# Altium integrated library Atmel Microcontroller 32-Bit ARM.IntLib: 17 symbols
Pins are listed as number, name and electrical type; pins without a type are passive.

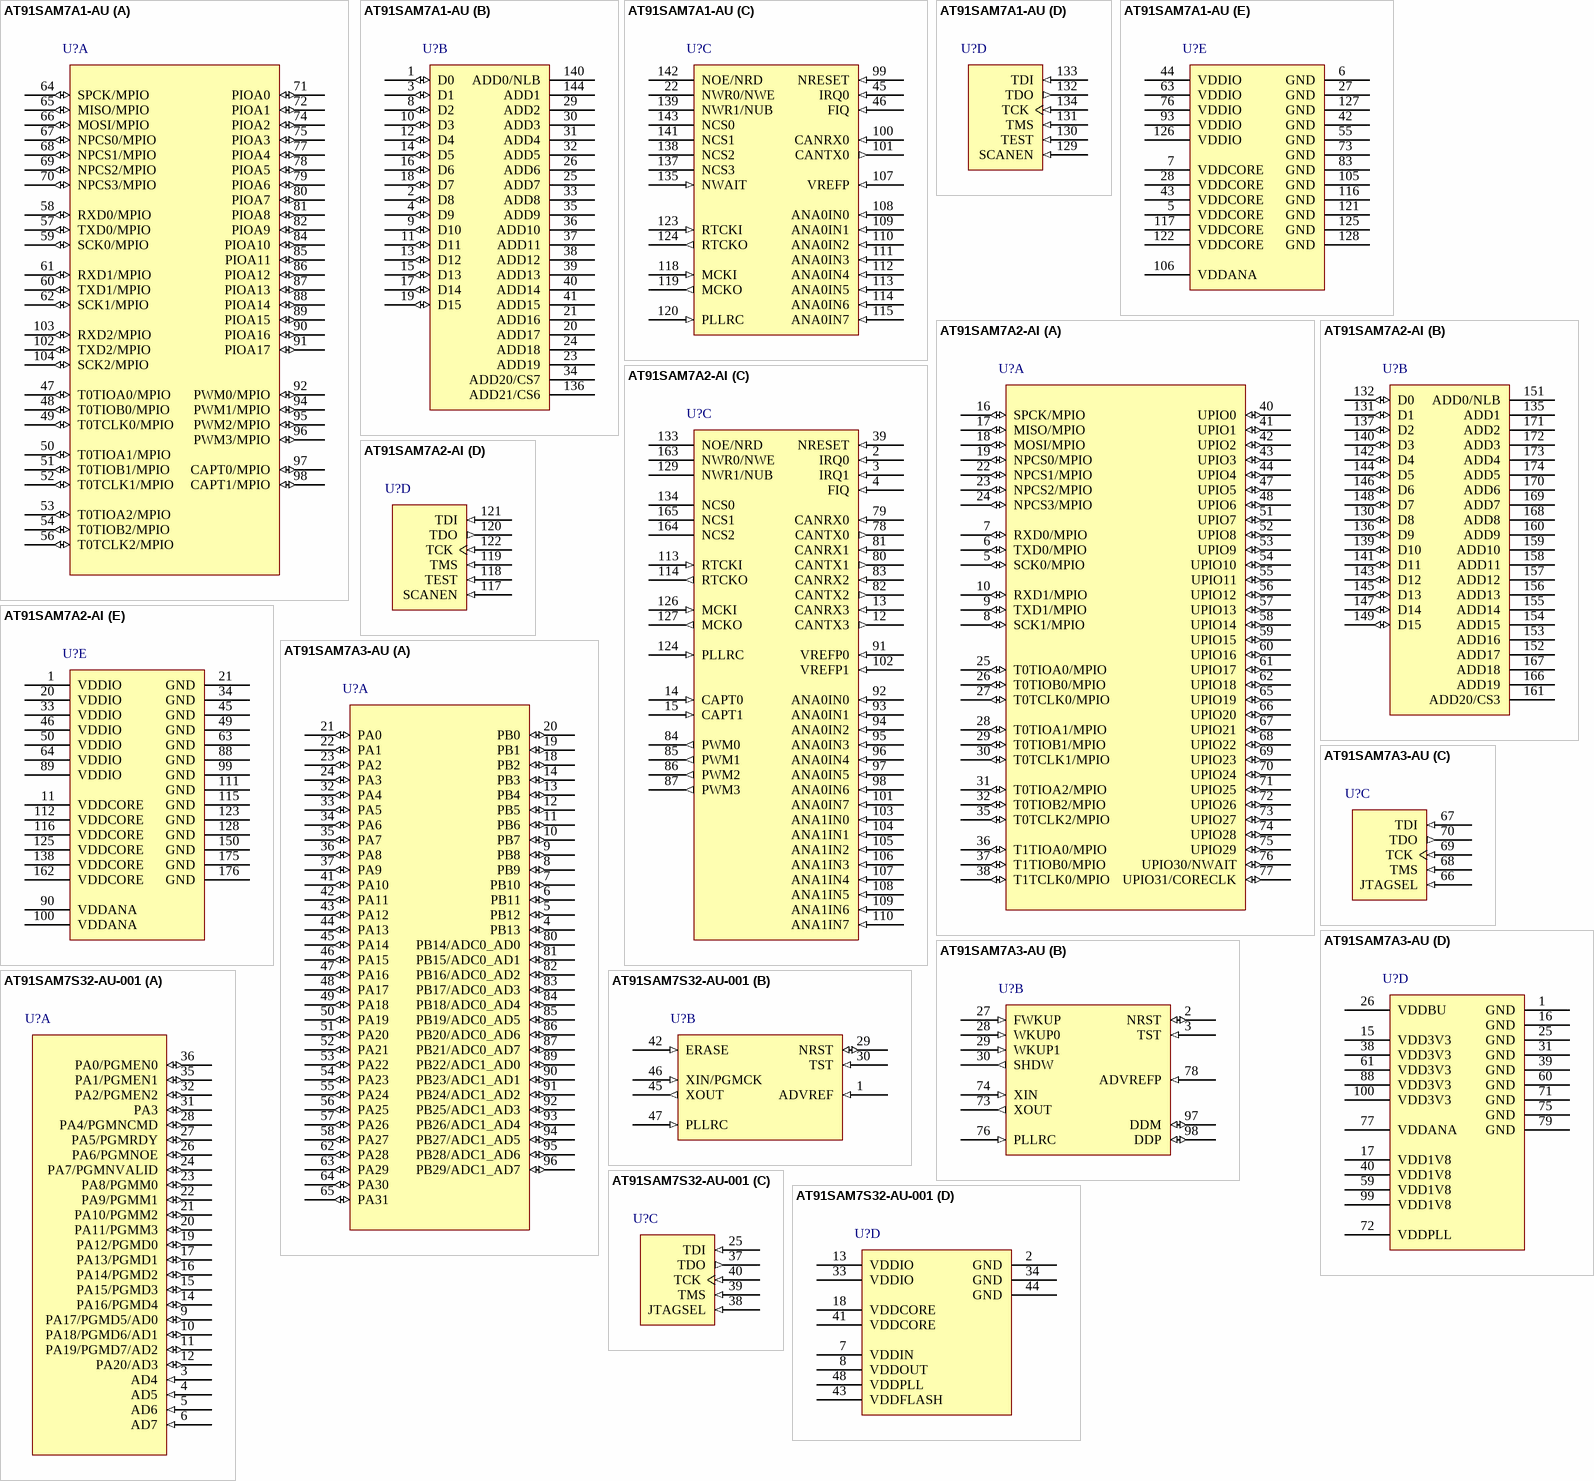
[diagram p0: symbols AT91SAM7A1-AU to AT91SAM7S32-AU-001]

## AT91SAM7A1-AU
designator U?
Smart ARM Microcontroller, ARM7TDMI 32-Bit RISC CPU, 4KB Internal RAM, 144-Pin LQFP, Industrial, Pb-Free; Published: 16-Oct-2006; DatasheetVersion: 29-Jun-2006; PackageVersion: rev.C, Oct-2001; PackageReference: 144AA; Publisher: Altium Limited; PackageDescription: 144-Pin Thin Quad Flat Pack 0.5 mm Pitch; Code_JEDEC: MS-026-BFB; ComponentLink1Description: Manufacturer Link; ComponentLink1URL: http://www.atmel.com; ComponentLink2Description: Datasheet; ComponentLink2URL: http://www.atmel.com/dyn/resources/prod_documents/6048s.pdf
footprint 144AA_N (Thin QFP, 144-Leads, Body 20x20mm, Pitch 0.5mm, IPC Medium Density)
footprint 144AA_L (Thin QFP, 144-Leads, Body 20x20mm, Pitch 0.5mm, IPC High Density)
footprint 144AA_M (Thin QFP, 144-Leads, Body 20x20mm, Pitch 0.5mm, IPC Low Density)
part A pins: 47 T0TIOA0/MPIO (io), 48 T0TIOB0/MPIO (io), 49 T0TCLK0/MPIO (io), 50 T0TIOA1/MPIO (io), 51 T0TIOB1/MPIO (io), 52 T0TCLK1/MPIO (io), 53 T0TIOA2/MPIO (io), 54 T0TIOB2/MPIO (io), 56 T0TCLK2/MPIO (io), 57 TXD0/MPIO (io), 58 RXD0/MPIO (io), 59 SCK0/MPIO (io), 60 TXD1/MPIO (io), 61 RXD1/MPIO (io), 62 SCK1/MPIO (io), 64 SPCK/MPIO (io), 65 MISO/MPIO (io), 66 MOSI/MPIO (io), 67 NPCS0/MPIO (io), 68 NPCS1/MPIO (io), 69 NPCS2/MPIO (io), 70 NPCS3/MPIO (io), 71 PIOA0 (io), 72 PIOA1 (io), 74 PIOA2 (io), 75 PIOA3 (io), 77 PIOA4 (io), 78 PIOA5 (io), 79 PIOA6 (io), 80 PIOA7 (io), 81 PIOA8 (io), 82 PIOA9 (io), 84 PIOA10 (io), 85 PIOA11 (io), 86 PIOA12 (io), 87 PIOA13 (io), 88 PIOA14 (io), 89 PIOA15 (io), 90 PIOA16 (io), 91 PIOA17 (io), 92 PWM0/MPIO (io), 94 PWM1/MPIO (io), 95 PWM2/MPIO (io), 96 PWM3/MPIO (io), 97 CAPT0/MPIO (io), 98 CAPT1/MPIO (io), 102 TXD2/MPIO (io), 103 RXD2/MPIO (io), 104 SCK2/MPIO (io)
part B pins: 1 D0 (io), 2 D8 (io), 3 D1 (io), 4 D9 (io), 8 D2 (io), 9 D10 (io), 10 D3 (io), 11 D11 (io), 12 D4 (io), 13 D12 (io), 14 D5 (io), 15 D13 (io), 16 D6 (io), 17 D14 (io), 18 D7 (io), 19 D15 (io), 20 ADD17 (hiz), 21 ADD16 (hiz), 23 ADD19 (hiz), 24 ADD18 (hiz), 25 ADD7 (hiz), 26 ADD6 (hiz), 29 ADD2 (hiz), 30 ADD3 (hiz), 31 ADD4 (hiz), 32 ADD5 (hiz), 33 ADD8 (hiz), 34 ADD20/CS7 (hiz), 35 ADD9 (hiz), 36 ADD10 (hiz), 37 ADD11 (hiz), 38 ADD12 (hiz), 39 ADD13 (hiz), 40 ADD14 (hiz), 41 ADD15 (hiz), 136 ADD21/CS6 (hiz), 140 ADD0/NLB (hiz), 144 ADD1 (hiz)
part C pins: 22 NWR0/NWE (hiz), 45 IRQ0 (in), 46 FIQ (in), 99 NRESET (in), 100 CANRX0 (in), 101 CANTX0 (out), 107 VREFP (in), 108 ANA0IN0 (in), 109 ANA0IN1 (in), 110 ANA0IN2 (in), 111 ANA0IN3 (in), 112 ANA0IN4 (in), 113 ANA0IN5 (in), 114 ANA0IN6 (in), 115 ANA0IN7 (in), 118 MCKI (in), 119 MCKO (out), 120 PLLRC (in), 123 RTCKI (in), 124 RTCKO (out), 135 NWAIT (in), 137 NCS3 (hiz), 138 NCS2 (hiz), 139 NWR1/NUB (hiz), 141 NCS1 (hiz), 142 NOE/NRD (hiz), 143 NCS0 (hiz)
part D pins: 129 SCANEN (in), 130 TEST (in), 131 TMS (in), 132 TDO (out), 133 TDI (in), 134 TCK (in)
part E pins: 5 VDDCORE (power), 6 GND (power), 7 VDDCORE (power), 27 GND (power), 28 VDDCORE (power), 42 GND (power), 43 VDDCORE (power), 44 VDDIO (power), 55 GND (power), 63 VDDIO (power), 73 GND (power), 76 VDDIO (power), 83 GND (power), 93 VDDIO (power), 105 GND (power), 106 VDDANA (power), 116 GND (power), 117 VDDCORE (power), 121 GND (power), 122 VDDCORE (power), 125 GND (power), 126 VDDIO (power), 127 GND (power), 128 GND (power)

## AT91SAM7A2-AI
designator U?
Smart ARM Microcontroller, ARM7TDMI 32-Bit RISC CPU, 16KB Internal SRAM, 176-Pin LQFP, Industrial; Published: 16-Oct-2006; DatasheetVersion: 06-Jul-2004; PackageVersion: Jul-2004; PackageReference: LQFP176; Publisher: Altium Limited; PackageDescription: 176-Pin Thin Quad Flat Pack 0.5 mm Pitch; Code_JEDEC: MS-026-BGA; ComponentLink1Description: Manufacturer Link; ComponentLink1URL: http://www.atmel.com; ComponentLink2Description: Datasheet; ComponentLink2URL: http://www.atmel.com/dyn/resources/prod_documents/6021s.pdf
footprint LQFP176_N (Thin QFP, 176-Leads, Body 24x24mm, Pitch 0.5mm, IPC Medium Density)
footprint LQFP176_L (Thin QFP, 176-Leads, Body 24x24mm, Pitch 0.5mm, IPC High Density)
footprint LQFP176_M (Thin QFP, 176-Leads, Body 24x24mm, Pitch 0.5mm, IPC Low Density)
part A pins: 5 SCK0/MPIO (io), 6 TXD0/MPIO (io), 7 RXD0/MPIO (io), 8 SCK1/MPIO (io), 9 TXD1/MPIO (io), 10 RXD1/MPIO (io), 16 SPCK/MPIO (io), 17 MISO/MPIO (io), 18 MOSI/MPIO (io), 19 NPCS0/MPIO (io), 22 NPCS1/MPIO (io), 23 NPCS2/MPIO (io), 24 NPCS3/MPIO (io), 25 T0TIOA0/MPIO (io), 26 T0TIOB0/MPIO (io), 27 T0TCLK0/MPIO (io), 28 T0TIOA1/MPIO (io), 29 T0TIOB1/MPIO (io), 30 T0TCLK1/MPIO (io), 31 T0TIOA2/MPIO (io), 32 T0TIOB2/MPIO (io), 35 T0TCLK2/MPIO (io), 36 T1TIOA0/MPIO (io), 37 T1TIOB0/MPIO (io), 38 T1TCLK0/MPIO (io), 40 UPIO0 (io), 41 UPIO1 (io), 42 UPIO2 (io), 43 UPIO3 (io), 44 UPIO4 (io), 47 UPIO5 (io), 48 UPIO6 (io), 51 UPIO7 (io), 52 UPIO8 (io), 53 UPIO9 (io), 54 UPIO10 (io), 55 UPIO11 (io), 56 UPIO12 (io), 57 UPIO13 (io), 58 UPIO14 (io), 59 UPIO15 (io), 60 UPIO16 (io), 61 UPIO17 (io), 62 UPIO18 (io), 65 UPIO19 (io), 66 UPIO20 (io), 67 UPIO21 (io), 68 UPIO22 (io), 69 UPIO23 (io), 70 UPIO24 (io), 71 UPIO25 (io), 72 UPIO26 (io), 73 UPIO27 (io), 74 UPIO28 (io), 75 UPIO29 (io), 76 UPIO30/NWAIT (io), 77 UPIO31/CORECLK (io)
part B pins: 130 D8 (io), 131 D1 (io), 132 D0 (io), 135 ADD1 (hiz), 136 D9 (io), 137 D2 (io), 139 D10 (io), 140 D3 (io), 141 D11 (io), 142 D4 (io), 143 D12 (io), 144 D5 (io), 145 D13 (io), 146 D6 (io), 147 D14 (io), 148 D7 (io), 149 D15 (io), 151 ADD0/NLB (hiz), 152 ADD17 (hiz), 153 ADD16 (hiz), 154 ADD15 (hiz), 155 ADD14 (hiz), 156 ADD13 (hiz), 157 ADD12 (hiz), 158 ADD11 (hiz), 159 ADD10 (hiz), 160 ADD9 (hiz), 161 ADD20/CS3 (hiz), 166 ADD19 (hiz), 167 ADD18 (hiz), 168 ADD8 (hiz), 169 ADD7 (hiz), 170 ADD6 (hiz), 171 ADD2 (hiz), 172 ADD3 (hiz), 173 ADD4 (hiz), 174 ADD5 (hiz)
part C pins: 2 IRQ0 (in), 3 IRQ1 (in), 4 FIQ (in), 12 CANTX3 (out), 13 CANRX3 (in), 14 CAPT0 (in), 15 CAPT1 (in), 39 NRESET (in), 78 CANTX0 (out), 79 CANRX0 (in), 80 CANTX1 (out), 81 CANRX1 (in), 82 CANTX2 (out), 83 CANRX2 (in), 84 PWM0 (out), 85 PWM1 (out), 86 PWM2 (out), 87 PWM3 (out), 91 VREFP0 (in), 92 ANA0IN0 (in), 93 ANA0IN1 (in), 94 ANA0IN2 (in), 95 ANA0IN3 (in), 96 ANA0IN4 (in), 97 ANA0IN5 (in), 98 ANA0IN6 (in), 101 ANA0IN7 (in), 102 VREFP1 (in), 103 ANA1IN0 (in), 104 ANA1IN1 (in), 105 ANA1IN2 (in), 106 ANA1IN3 (in), 107 ANA1IN4 (in), 108 ANA1IN5 (in), 109 ANA1IN6 (in), 110 ANA1IN7 (in), 113 RTCKI (in), 114 RTCKO (out), 124 PLLRC (in), 126 MCKI (in), 127 MCKO (out), 129 NWR1/NUB (hiz), 133 NOE/NRD (hiz), 134 NCS0 (hiz), 163 NWR0/NWE (hiz), 164 NCS2 (hiz), 165 NCS1 (hiz)
part D pins: 117 SCANEN (in), 118 TEST (in), 119 TMS (in), 120 TDO (out), 121 TDI (in), 122 TCK (in)
part E pins: 1 VDDIO (power), 11 VDDCORE (power), 20 VDDIO (power), 21 GND (power), 33 VDDIO (power), 34 GND (power), 45 GND (power), 46 VDDIO (power), 49 GND (power), 50 VDDIO (power), 63 GND (power), 64 VDDIO (power), 88 GND (power), 89 VDDIO (power), 90 VDDANA (power), 99 GND (power), 100 VDDANA (power), 111 GND (power), 112 VDDCORE (power), 115 GND (power), 116 VDDCORE (power), 123 GND (power), 125 VDDCORE (power), 128 GND (power), 138 VDDCORE (power), 150 GND (power), 162 VDDCORE (power), 175 GND (power), 176 GND (power)

## AT91SAM7A3-AU
designator U?
Smart ARM Microcontroller, ARM7TDMI 32-Bit RISC CPU, 256KB Flash and 32KB SRAM, 100-Pin LQFP, Industrial, Pb-Free; Published: 16-Oct-2006; DatasheetVersion: 21-Nov-2005; PackageVersion: Apr-2006; PackageReference: LQFP100; Publisher: Altium Limited; PackageDescription: 100-Pin Thin Quad Flat Pack 0.5 mm Pitch; Code_JEDEC: MS-026-BED; ComponentLink1Description: Manufacturer Link; ComponentLink1URL: http://www.atmel.com; ComponentLink2Description: Datasheet; ComponentLink2URL: http://www.atmel.com/dyn/resources/prod_documents/6042s.pdf
footprint LQFP100_N (Thin QFP, 100-Leads, Body 14x14mm, Pitch 0.5mm, IPC Medium Density)
footprint LQFP100_L (Thin QFP, 100-Leads, Body 14x14mm, Pitch 0.5mm, IPC High Density)
footprint LQFP100_M (Thin QFP, 100-Leads, Body 14x14mm, Pitch 0.5mm, IPC Low Density)
part A pins: 4 PB13 (io), 5 PB12 (io), 6 PB11 (io), 7 PB10 (io), 8 PB9 (io), 9 PB8 (io), 10 PB7 (io), 11 PB6 (io), 12 PB5 (io), 13 PB4 (io), 14 PB3 (io), 18 PB2 (io), 19 PB1 (io), 20 PB0 (io), 21 PA0 (io), 22 PA1 (io), 23 PA2 (io), 24 PA3 (io), 32 PA4 (io), 33 PA5 (io), 34 PA6 (io), 35 PA7 (io), 36 PA8 (io), 37 PA9 (io), 41 PA10 (io), 42 PA11 (io), 43 PA12 (io), 44 PA13 (io), 45 PA14 (io), 46 PA15 (io), 47 PA16 (io), 48 PA17 (io), 49 PA18 (io), 50 PA19 (io), 51 PA20 (io), 52 PA21 (io), 53 PA22 (io), 54 PA23 (io), 55 PA24 (io), 56 PA25 (io), 57 PA26 (io), 58 PA27 (io), 62 PA28 (io), 63 PA29 (io), 64 PA30 (io), 65 PA31 (io), 80 PB14/ADC0_AD0 (io), 81 PB15/ADC0_AD1 (io), 82 PB16/ADC0_AD2 (io), 83 PB17/ADC0_AD3 (io), 84 PB18/ADC0_AD4 (io), 85 PB19/ADC0_AD5 (io), 86 PB20/ADC0_AD6 (io), 87 PB21/ADC0_AD7 (io), 89 PB22/ADC1_AD0 (io), 90 PB23/ADC1_AD1 (io), 91 PB24/ADC1_AD2 (io), 92 PB25/ADC1_AD3 (io), 93 PB26/ADC1_AD4 (io), 94 PB27/ADC1_AD5 (io), 95 PB28/ADC1_AD6 (io), 96 PB29/ADC1_AD7 (io)
part B pins: 2 NRST (io), 3 TST (in), 27 FWKUP (in), 28 WKUP0 (in), 29 WKUP1 (in), 30 SHDW (out), 73 XOUT (out), 74 XIN (in), 76 PLLRC (in), 78 ADVREFP (in), 97 DDM (io), 98 DDP (io)
part C pins: 66 JTAGSEL (in), 67 TDI (in), 68 TMS (in), 69 TCK (in), 70 TDO (out)
part D pins: 1 GND (power), 15 VDD3V3 (power), 16 GND (power), 17 VDD1V8 (power), 25 GND (power), 26 VDDBU (power), 31 GND (power), 38 VDD3V3 (power), 39 GND (power), 40 VDD1V8 (power), 59 VDD1V8 (power), 60 GND (power), 61 VDD3V3 (power), 71 GND (power), 72 VDDPLL (power), 75 GND (power), 77 VDDANA (power), 79 GND (power), 88 VDD3V3 (power), 99 VDD1V8 (power), 100 VDD3V3 (power)

## AT91SAM7S32-AU-001
designator U?
Smart ARM Microcontroller, ARM7TDMI 32-Bit RISC CPU, 32KB Flash and 8KB SRAM, 48-Pin LQFP, Industrial, Pb-Free; Published: 16-Oct-2006; DatasheetVersion: 22-Mar-2006; PackageVersion: rev1229B, Nov-2000; PackageReference: 48A; Publisher: Altium Limited; PackageDescription: 48-Pin Thin Quad Flat Pack 0.5 mm Pitch; ComponentLink1Description: Manufacturer Link; ComponentLink1URL: http://www.atmel.com; ComponentLink2Description: Datasheet; ComponentLink2URL: http://www.atmel.com/dyn/resources/prod_documents/6175s.pdf
footprint 48A_N (Thin QFP, 48-Leads, Body 7x7mm, Pitch 0.5mm, IPC Medium Density)
footprint 48A_L (Thin QFP, 48-Leads, Body 7x7mm, Pitch 0.5mm, IPC High Density)
footprint 48A_M (Thin QFP, 48-Leads, Body 7x7mm, Pitch 0.5mm, IPC Low Density)
part A pins: 3 AD4 (in), 4 AD5 (in), 5 AD6 (in), 6 AD7 (in), 9 PA17/PGMD5/AD0 (io), 10 PA18/PGMD6/AD1 (io), 11 PA19/PGMD7/AD2 (io), 12 PA20/AD3 (io), 14 PA16/PGMD4 (io), 15 PA15/PGMD3 (io), 16 PA14/PGMD2 (io), 17 PA13/PGMD1 (io), 19 PA12/PGMD0 (io), 20 PA11/PGMM3 (io), 21 PA10/PGMM2 (io), 22 PA9/PGMM1 (io), 23 PA8/PGMM0 (io), 24 PA7/PGMNVALID (io), 26 PA6/PGMNOE (io), 27 PA5/PGMRDY (io), 28 PA4/PGMNCMD (io), 31 PA3 (io), 32 PA2/PGMEN2 (io), 35 PA1/PGMEN1 (io), 36 PA0/PGMEN0 (io)
part B pins: 1 ADVREF (in), 29 NRST (io), 30 TST (in), 42 ERASE (in), 45 XOUT (out), 46 XIN/PGMCK (in), 47 PLLRC (in)
part C pins: 25 TDI (in), 37 TDO (out), 38 JTAGSEL (in), 39 TMS (in), 40 TCK (in)
part D pins: 2 GND (power), 7 VDDIN (power), 8 VDDOUT (power), 13 VDDIO (power), 18 VDDCORE (power), 33 VDDIO (power), 34 GND (power), 41 VDDCORE (power), 43 VDDFLASH (power), 44 GND (power), 48 VDDPLL (power)

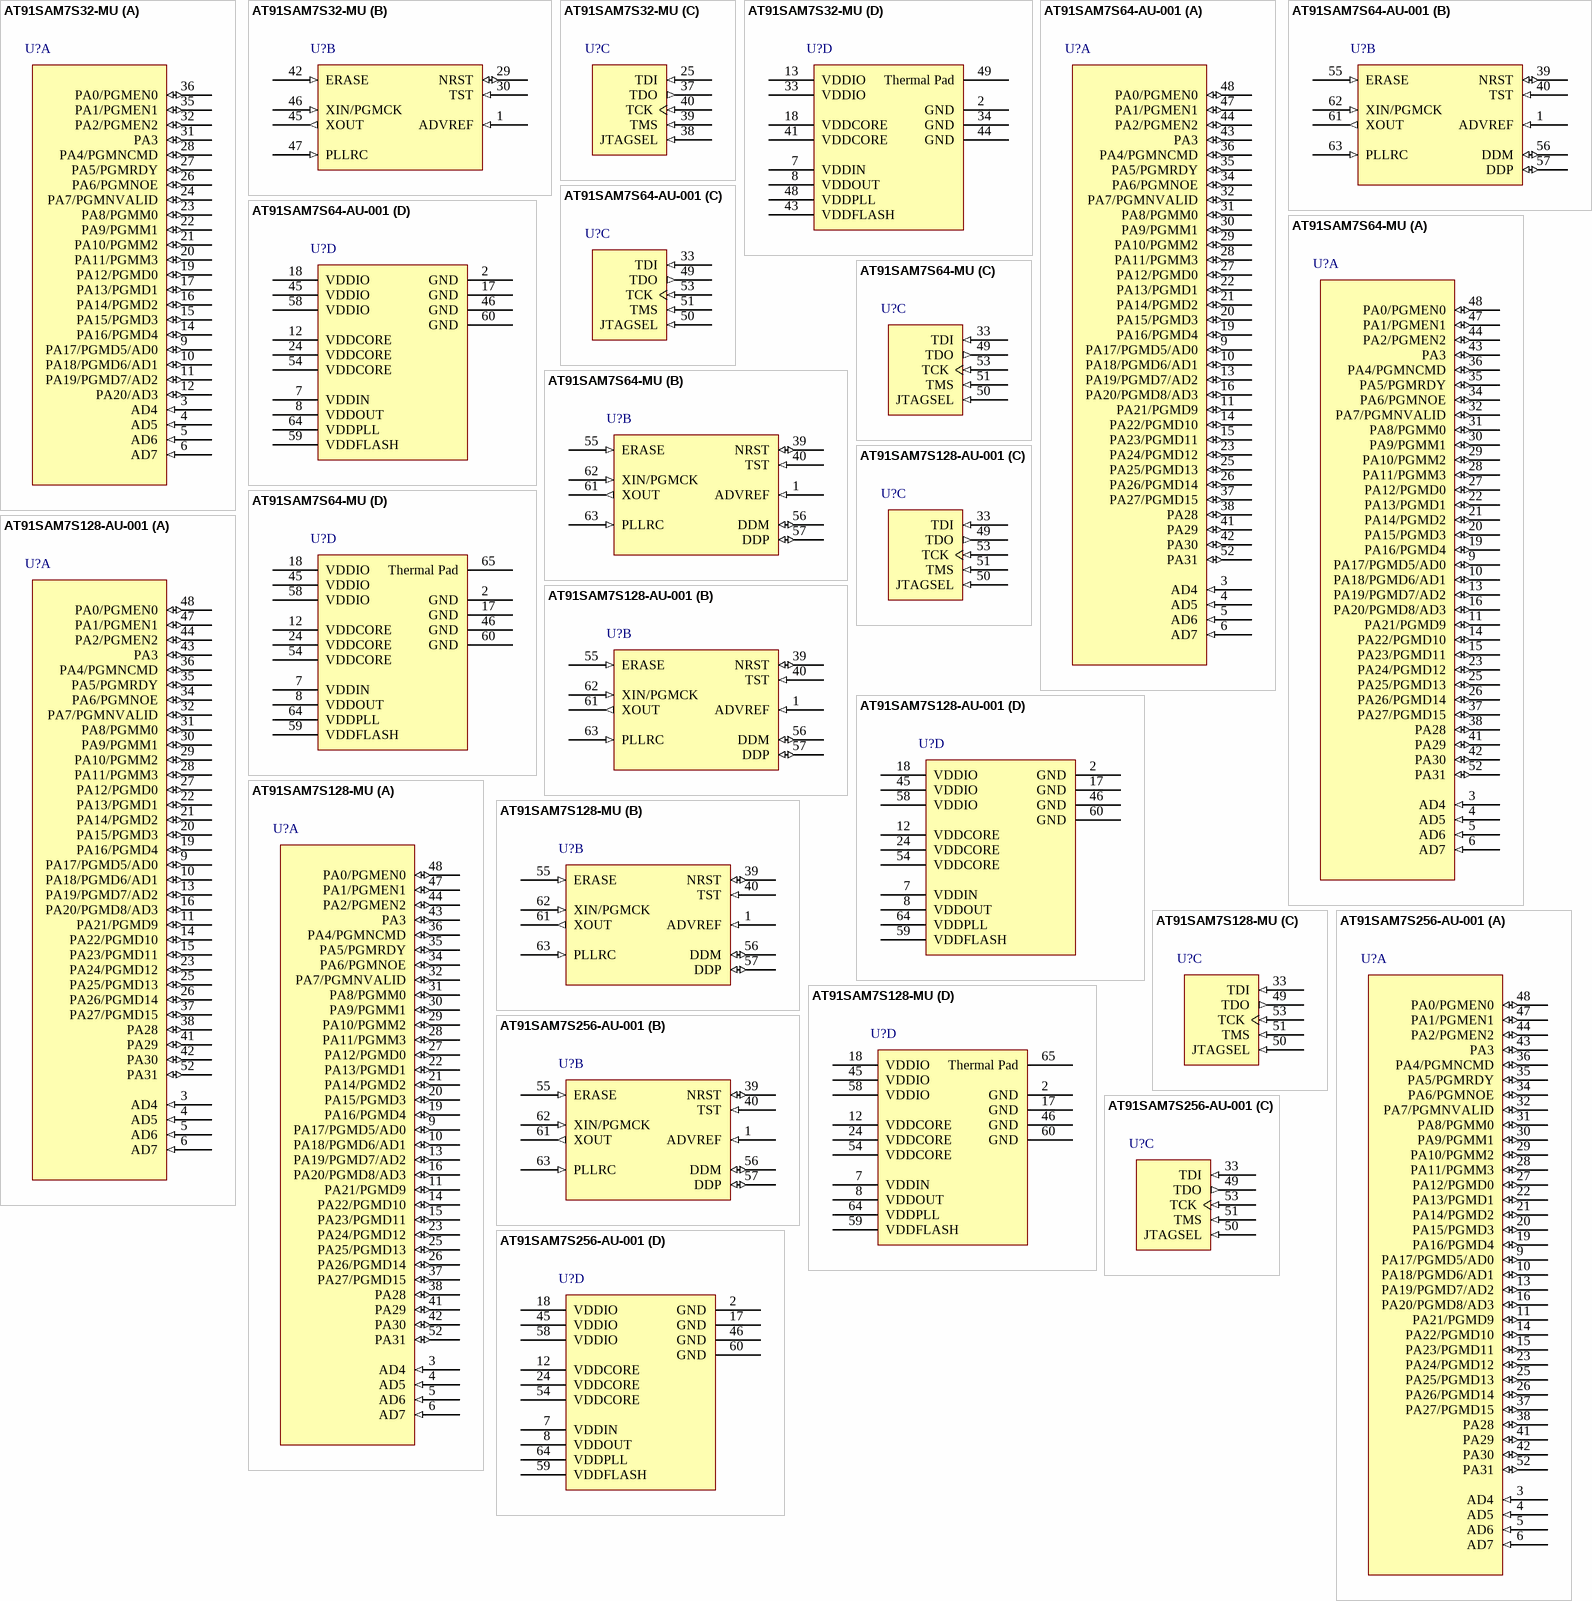
[diagram p1: symbols AT91SAM7S32-MU to AT91SAM7S256-AU-001]

## AT91SAM7S32-MU
designator U?
Smart ARM Microcontroller, ARM7TDMI 32-Bit RISC CPU, 32KB Flash and 8KB SRAM, 48-Pin QFN, Industrial, Pb-Free; Published: 16-Oct-2006; DatasheetVersion: 22-Mar-2006; PackageVersion: Apr-2006; PackageReference: QFN48; Publisher: Altium Limited; PackageDescription: 48-Pin Quad Flat No-Lead 0.5 mm Pitch; ComponentLink1Description: Manufacturer Link; ComponentLink1URL: http://www.atmel.com; ComponentLink2Description: Datasheet; ComponentLink2URL: http://www.atmel.com/dyn/resources/prod_documents/6175s.pdf
footprint QFN48_N (QFN, 48-Leads, Body 7x7mm, Pitch 0.5mm, IPC Medium Density)
footprint QFN48_L (QFN, 48-Leads, Body 7x7mm, Pitch 0.5mm, IPC High Density)
footprint QFN48_M (QFN, 48-Leads, Body 7x7mm, Pitch 0.5mm, IPC Low Density)
part A pins: 3 AD4 (in), 4 AD5 (in), 5 AD6 (in), 6 AD7 (in), 9 PA17/PGMD5/AD0 (io), 10 PA18/PGMD6/AD1 (io), 11 PA19/PGMD7/AD2 (io), 12 PA20/AD3 (io), 14 PA16/PGMD4 (io), 15 PA15/PGMD3 (io), 16 PA14/PGMD2 (io), 17 PA13/PGMD1 (io), 19 PA12/PGMD0 (io), 20 PA11/PGMM3 (io), 21 PA10/PGMM2 (io), 22 PA9/PGMM1 (io), 23 PA8/PGMM0 (io), 24 PA7/PGMNVALID (io), 26 PA6/PGMNOE (io), 27 PA5/PGMRDY (io), 28 PA4/PGMNCMD (io), 31 PA3 (io), 32 PA2/PGMEN2 (io), 35 PA1/PGMEN1 (io), 36 PA0/PGMEN0 (io)
part B pins: 1 ADVREF (in), 29 NRST (io), 30 TST (in), 42 ERASE (in), 45 XOUT (out), 46 XIN/PGMCK (in), 47 PLLRC (in)
part C pins: 25 TDI (in), 37 TDO (out), 38 JTAGSEL (in), 39 TMS (in), 40 TCK (in)
part D pins: 2 GND (power), 7 VDDIN (power), 8 VDDOUT (power), 13 VDDIO (power), 18 VDDCORE (power), 33 VDDIO (power), 34 GND (power), 41 VDDCORE (power), 43 VDDFLASH (power), 44 GND (power), 48 VDDPLL (power), 49 Thermal Pad (power)

## AT91SAM7S64-AU-001
designator U?
Smart ARM Microcontroller, ARM7TDMI 32-Bit RISC CPU, 64KB Flash and 16KB SRAM, 64-Pin LQFP, Industrial, Pb-Free; Published: 16-Oct-2006; DatasheetVersion: 22-Mar-2006; PackageVersion: Apr-2006; PackageReference: LQFP64; Publisher: Altium Limited; PackageDescription: 64-Pin Thin Quad Flat Pack 0.5 mm Pitch; Code_JEDEC: MS-026-BCD; ComponentLink1Description: Manufacturer Link; ComponentLink1URL: http://www.atmel.com; ComponentLink2Description: Datasheet; ComponentLink2URL: http://www.atmel.com/dyn/resources/prod_documents/6175s.pdf
footprint LQFP64_N (Thin QFP, 64-Leads, Body 10x10mm, Pitch 0.5mm, IPC Medium Density)
footprint LQFP64_L (Thin QFP, 64-Leads, Body 10x10mm, Pitch 0.5mm, IPC High Density)
footprint LQFP64_M (Thin QFP, 64-Leads, Body 10x10mm, Pitch 0.5mm, IPC Low Density)
part A pins: 3 AD4 (in), 4 AD5 (in), 5 AD6 (in), 6 AD7 (in), 9 PA17/PGMD5/AD0 (io), 10 PA18/PGMD6/AD1 (io), 11 PA21/PGMD9 (io), 13 PA19/PGMD7/AD2 (io), 14 PA22/PGMD10 (io), 15 PA23/PGMD11 (io), 16 PA20/PGMD8/AD3 (io), 19 PA16/PGMD4 (io), 20 PA15/PGMD3 (io), 21 PA14/PGMD2 (io), 22 PA13/PGMD1 (io), 23 PA24/PGMD12 (io), 25 PA25/PGMD13 (io), 26 PA26/PGMD14 (io), 27 PA12/PGMD0 (io), 28 PA11/PGMM3 (io), 29 PA10/PGMM2 (io), 30 PA9/PGMM1 (io), 31 PA8/PGMM0 (io), 32 PA7/PGMNVALID (io), 34 PA6/PGMNOE (io), 35 PA5/PGMRDY (io), 36 PA4/PGMNCMD (io), 37 PA27/PGMD15 (io), 38 PA28 (io), 41 PA29 (io), 42 PA30 (io), 43 PA3 (io), 44 PA2/PGMEN2 (io), 47 PA1/PGMEN1 (io), 48 PA0/PGMEN0 (io), 52 PA31 (io)
part B pins: 1 ADVREF (in), 39 NRST (io), 40 TST (in), 55 ERASE (in), 56 DDM (io), 57 DDP (io), 61 XOUT (out), 62 XIN/PGMCK (in), 63 PLLRC (in)
part C pins: 33 TDI (in), 49 TDO (out), 50 JTAGSEL (in), 51 TMS (in), 53 TCK (in)
part D pins: 2 GND (power), 7 VDDIN (power), 8 VDDOUT (power), 12 VDDCORE (power), 17 GND (power), 18 VDDIO (power), 24 VDDCORE (power), 45 VDDIO (power), 46 GND (power), 54 VDDCORE (power), 58 VDDIO (power), 59 VDDFLASH (power), 60 GND (power), 64 VDDPLL (power)

## AT91SAM7S64-MU
designator U?
Smart ARM Microcontroller, ARM7TDMI 32-Bit RISC CPU, 64KB Flash and 16KB SRAM, 64-Pin QFN, Industrial, Pb-Free; Published: 16-Oct-2006; DatasheetVersion: 22-Mar-2006; PackageVersion: Apr-2006; PackageReference: QFN64; Publisher: Altium Limited; PackageDescription: 64-Pin Quad Flat No-Lead 0.5 mm Pitch; Code_JEDEC: MO-220; ComponentLink1Description: Manufacturer Link; ComponentLink1URL: http://www.atmel.com; ComponentLink2Description: Datasheet; ComponentLink2URL: http://www.atmel.com/dyn/resources/prod_documents/6175s.pdf
footprint QFN64_N (QFN, 64-Leads, Body 9x9mm, Pitch 0.5mm, IPC Medium Density)
footprint QFN64_L (QFN, 64-Leads, Body 9x9mm, Pitch 0.5mm, IPC High Density)
footprint QFN64_M (QFN, 64-Leads, Body 9x9mm, Pitch 0.5mm, IPC Low Density)
part A pins: 3 AD4 (in), 4 AD5 (in), 5 AD6 (in), 6 AD7 (in), 9 PA17/PGMD5/AD0 (io), 10 PA18/PGMD6/AD1 (io), 11 PA21/PGMD9 (io), 13 PA19/PGMD7/AD2 (io), 14 PA22/PGMD10 (io), 15 PA23/PGMD11 (io), 16 PA20/PGMD8/AD3 (io), 19 PA16/PGMD4 (io), 20 PA15/PGMD3 (io), 21 PA14/PGMD2 (io), 22 PA13/PGMD1 (io), 23 PA24/PGMD12 (io), 25 PA25/PGMD13 (io), 26 PA26/PGMD14 (io), 27 PA12/PGMD0 (io), 28 PA11/PGMM3 (io), 29 PA10/PGMM2 (io), 30 PA9/PGMM1 (io), 31 PA8/PGMM0 (io), 32 PA7/PGMNVALID (io), 34 PA6/PGMNOE (io), 35 PA5/PGMRDY (io), 36 PA4/PGMNCMD (io), 37 PA27/PGMD15 (io), 38 PA28 (io), 41 PA29 (io), 42 PA30 (io), 43 PA3 (io), 44 PA2/PGMEN2 (io), 47 PA1/PGMEN1 (io), 48 PA0/PGMEN0 (io), 52 PA31 (io)
part B pins: 1 ADVREF (in), 39 NRST (io), 40 TST (in), 55 ERASE (in), 56 DDM (io), 57 DDP (io), 61 XOUT (out), 62 XIN/PGMCK (in), 63 PLLRC (in)
part C pins: 33 TDI (in), 49 TDO (out), 50 JTAGSEL (in), 51 TMS (in), 53 TCK (in)
part D pins: 2 GND (power), 7 VDDIN (power), 8 VDDOUT (power), 12 VDDCORE (power), 17 GND (power), 18 VDDIO (power), 24 VDDCORE (power), 45 VDDIO (power), 46 GND (power), 54 VDDCORE (power), 58 VDDIO (power), 59 VDDFLASH (power), 60 GND (power), 64 VDDPLL (power), 65 Thermal Pad (power)

## AT91SAM7S128-AU-001
designator U?
Smart ARM Microcontroller, ARM7TDMI 32-Bit RISC CPU, 128KB Flash and 32KB SRAM, 64-Pin LQFP, Industrial, Pb-Free; Published: 16-Oct-2006; DatasheetVersion: 22-Mar-2006; PackageVersion: Apr-2006; PackageReference: LQFP64; Publisher: Altium Limited; PackageDescription: 64-Pin Thin Quad Flat Pack 0.5 mm Pitch; Code_JEDEC: MS-026-BCD; ComponentLink1Description: Manufacturer Link; ComponentLink1URL: http://www.atmel.com; ComponentLink2Description: Datasheet; ComponentLink2URL: http://www.atmel.com/dyn/resources/prod_documents/6175s.pdf
footprint LQFP64_N (Thin QFP, 64-Leads, Body 10x10mm, Pitch 0.5mm, IPC Medium Density)
footprint LQFP64_L (Thin QFP, 64-Leads, Body 10x10mm, Pitch 0.5mm, IPC High Density)
footprint LQFP64_M (Thin QFP, 64-Leads, Body 10x10mm, Pitch 0.5mm, IPC Low Density)
part A pins: 3 AD4 (in), 4 AD5 (in), 5 AD6 (in), 6 AD7 (in), 9 PA17/PGMD5/AD0 (io), 10 PA18/PGMD6/AD1 (io), 11 PA21/PGMD9 (io), 13 PA19/PGMD7/AD2 (io), 14 PA22/PGMD10 (io), 15 PA23/PGMD11 (io), 16 PA20/PGMD8/AD3 (io), 19 PA16/PGMD4 (io), 20 PA15/PGMD3 (io), 21 PA14/PGMD2 (io), 22 PA13/PGMD1 (io), 23 PA24/PGMD12 (io), 25 PA25/PGMD13 (io), 26 PA26/PGMD14 (io), 27 PA12/PGMD0 (io), 28 PA11/PGMM3 (io), 29 PA10/PGMM2 (io), 30 PA9/PGMM1 (io), 31 PA8/PGMM0 (io), 32 PA7/PGMNVALID (io), 34 PA6/PGMNOE (io), 35 PA5/PGMRDY (io), 36 PA4/PGMNCMD (io), 37 PA27/PGMD15 (io), 38 PA28 (io), 41 PA29 (io), 42 PA30 (io), 43 PA3 (io), 44 PA2/PGMEN2 (io), 47 PA1/PGMEN1 (io), 48 PA0/PGMEN0 (io), 52 PA31 (io)
part B pins: 1 ADVREF (in), 39 NRST (io), 40 TST (in), 55 ERASE (in), 56 DDM (io), 57 DDP (io), 61 XOUT (out), 62 XIN/PGMCK (in), 63 PLLRC (in)
part C pins: 33 TDI (in), 49 TDO (out), 50 JTAGSEL (in), 51 TMS (in), 53 TCK (in)
part D pins: 2 GND (power), 7 VDDIN (power), 8 VDDOUT (power), 12 VDDCORE (power), 17 GND (power), 18 VDDIO (power), 24 VDDCORE (power), 45 VDDIO (power), 46 GND (power), 54 VDDCORE (power), 58 VDDIO (power), 59 VDDFLASH (power), 60 GND (power), 64 VDDPLL (power)

## AT91SAM7S128-MU
designator U?
Smart ARM Microcontroller, ARM7TDMI 32-Bit RISC CPU, 128KB Flash and 32KB SRAM, 64-Pin QFN, Industrial, Pb-Free; Published: 16-Oct-2006; DatasheetVersion: 22-Mar-2006; PackageVersion: Apr-2006; PackageReference: QFN64; Publisher: Altium Limited; PackageDescription: 64-Pin Quad Flat No-Lead 0.5 mm Pitch; Code_JEDEC: MO-220; ComponentLink1Description: Manufacturer Link; ComponentLink1URL: http://www.atmel.com; ComponentLink2Description: Datasheet; ComponentLink2URL: http://www.atmel.com/dyn/resources/prod_documents/6175s.pdf
footprint QFN64_N (QFN, 64-Leads, Body 9x9mm, Pitch 0.5mm, IPC Medium Density)
footprint QFN64_L (QFN, 64-Leads, Body 9x9mm, Pitch 0.5mm, IPC High Density)
footprint QFN64_M (QFN, 64-Leads, Body 9x9mm, Pitch 0.5mm, IPC Low Density)
part A pins: 3 AD4 (in), 4 AD5 (in), 5 AD6 (in), 6 AD7 (in), 9 PA17/PGMD5/AD0 (io), 10 PA18/PGMD6/AD1 (io), 11 PA21/PGMD9 (io), 13 PA19/PGMD7/AD2 (io), 14 PA22/PGMD10 (io), 15 PA23/PGMD11 (io), 16 PA20/PGMD8/AD3 (io), 19 PA16/PGMD4 (io), 20 PA15/PGMD3 (io), 21 PA14/PGMD2 (io), 22 PA13/PGMD1 (io), 23 PA24/PGMD12 (io), 25 PA25/PGMD13 (io), 26 PA26/PGMD14 (io), 27 PA12/PGMD0 (io), 28 PA11/PGMM3 (io), 29 PA10/PGMM2 (io), 30 PA9/PGMM1 (io), 31 PA8/PGMM0 (io), 32 PA7/PGMNVALID (io), 34 PA6/PGMNOE (io), 35 PA5/PGMRDY (io), 36 PA4/PGMNCMD (io), 37 PA27/PGMD15 (io), 38 PA28 (io), 41 PA29 (io), 42 PA30 (io), 43 PA3 (io), 44 PA2/PGMEN2 (io), 47 PA1/PGMEN1 (io), 48 PA0/PGMEN0 (io), 52 PA31 (io)
part B pins: 1 ADVREF (in), 39 NRST (io), 40 TST (in), 55 ERASE (in), 56 DDM (io), 57 DDP (io), 61 XOUT (out), 62 XIN/PGMCK (in), 63 PLLRC (in)
part C pins: 33 TDI (in), 49 TDO (out), 50 JTAGSEL (in), 51 TMS (in), 53 TCK (in)
part D pins: 2 GND (power), 7 VDDIN (power), 8 VDDOUT (power), 12 VDDCORE (power), 17 GND (power), 18 VDDIO (power), 24 VDDCORE (power), 45 VDDIO (power), 46 GND (power), 54 VDDCORE (power), 58 VDDIO (power), 59 VDDFLASH (power), 60 GND (power), 64 VDDPLL (power), 65 Thermal Pad (power)

## AT91SAM7S256-AU-001
designator U?
Smart ARM Microcontroller, ARM7TDMI 32-Bit RISC CPU, 256KB Flash and 64KB SRAM, 64-Pin LQFP, Industrial, Pb-Free; Published: 16-Oct-2006; DatasheetVersion: 22-Mar-2006; PackageVersion: Apr-2006; PackageReference: LQFP64; Publisher: Altium Limited; PackageDescription: 64-Pin Thin Quad Flat Pack 0.5 mm Pitch; Code_JEDEC: MS-026-BCD; ComponentLink1Description: Manufacturer Link; ComponentLink1URL: http://www.atmel.com; ComponentLink2Description: Datasheet; ComponentLink2URL: http://www.atmel.com/dyn/resources/prod_documents/6175s.pdf
footprint LQFP64_N (Thin QFP, 64-Leads, Body 10x10mm, Pitch 0.5mm, IPC Medium Density)
footprint LQFP64_L (Thin QFP, 64-Leads, Body 10x10mm, Pitch 0.5mm, IPC High Density)
footprint LQFP64_M (Thin QFP, 64-Leads, Body 10x10mm, Pitch 0.5mm, IPC Low Density)
part A pins: 3 AD4 (in), 4 AD5 (in), 5 AD6 (in), 6 AD7 (in), 9 PA17/PGMD5/AD0 (io), 10 PA18/PGMD6/AD1 (io), 11 PA21/PGMD9 (io), 13 PA19/PGMD7/AD2 (io), 14 PA22/PGMD10 (io), 15 PA23/PGMD11 (io), 16 PA20/PGMD8/AD3 (io), 19 PA16/PGMD4 (io), 20 PA15/PGMD3 (io), 21 PA14/PGMD2 (io), 22 PA13/PGMD1 (io), 23 PA24/PGMD12 (io), 25 PA25/PGMD13 (io), 26 PA26/PGMD14 (io), 27 PA12/PGMD0 (io), 28 PA11/PGMM3 (io), 29 PA10/PGMM2 (io), 30 PA9/PGMM1 (io), 31 PA8/PGMM0 (io), 32 PA7/PGMNVALID (io), 34 PA6/PGMNOE (io), 35 PA5/PGMRDY (io), 36 PA4/PGMNCMD (io), 37 PA27/PGMD15 (io), 38 PA28 (io), 41 PA29 (io), 42 PA30 (io), 43 PA3 (io), 44 PA2/PGMEN2 (io), 47 PA1/PGMEN1 (io), 48 PA0/PGMEN0 (io), 52 PA31 (io)
part B pins: 1 ADVREF (in), 39 NRST (io), 40 TST (in), 55 ERASE (in), 56 DDM (io), 57 DDP (io), 61 XOUT (out), 62 XIN/PGMCK (in), 63 PLLRC (in)
part C pins: 33 TDI (in), 49 TDO (out), 50 JTAGSEL (in), 51 TMS (in), 53 TCK (in)
part D pins: 2 GND (power), 7 VDDIN (power), 8 VDDOUT (power), 12 VDDCORE (power), 17 GND (power), 18 VDDIO (power), 24 VDDCORE (power), 45 VDDIO (power), 46 GND (power), 54 VDDCORE (power), 58 VDDIO (power), 59 VDDFLASH (power), 60 GND (power), 64 VDDPLL (power)

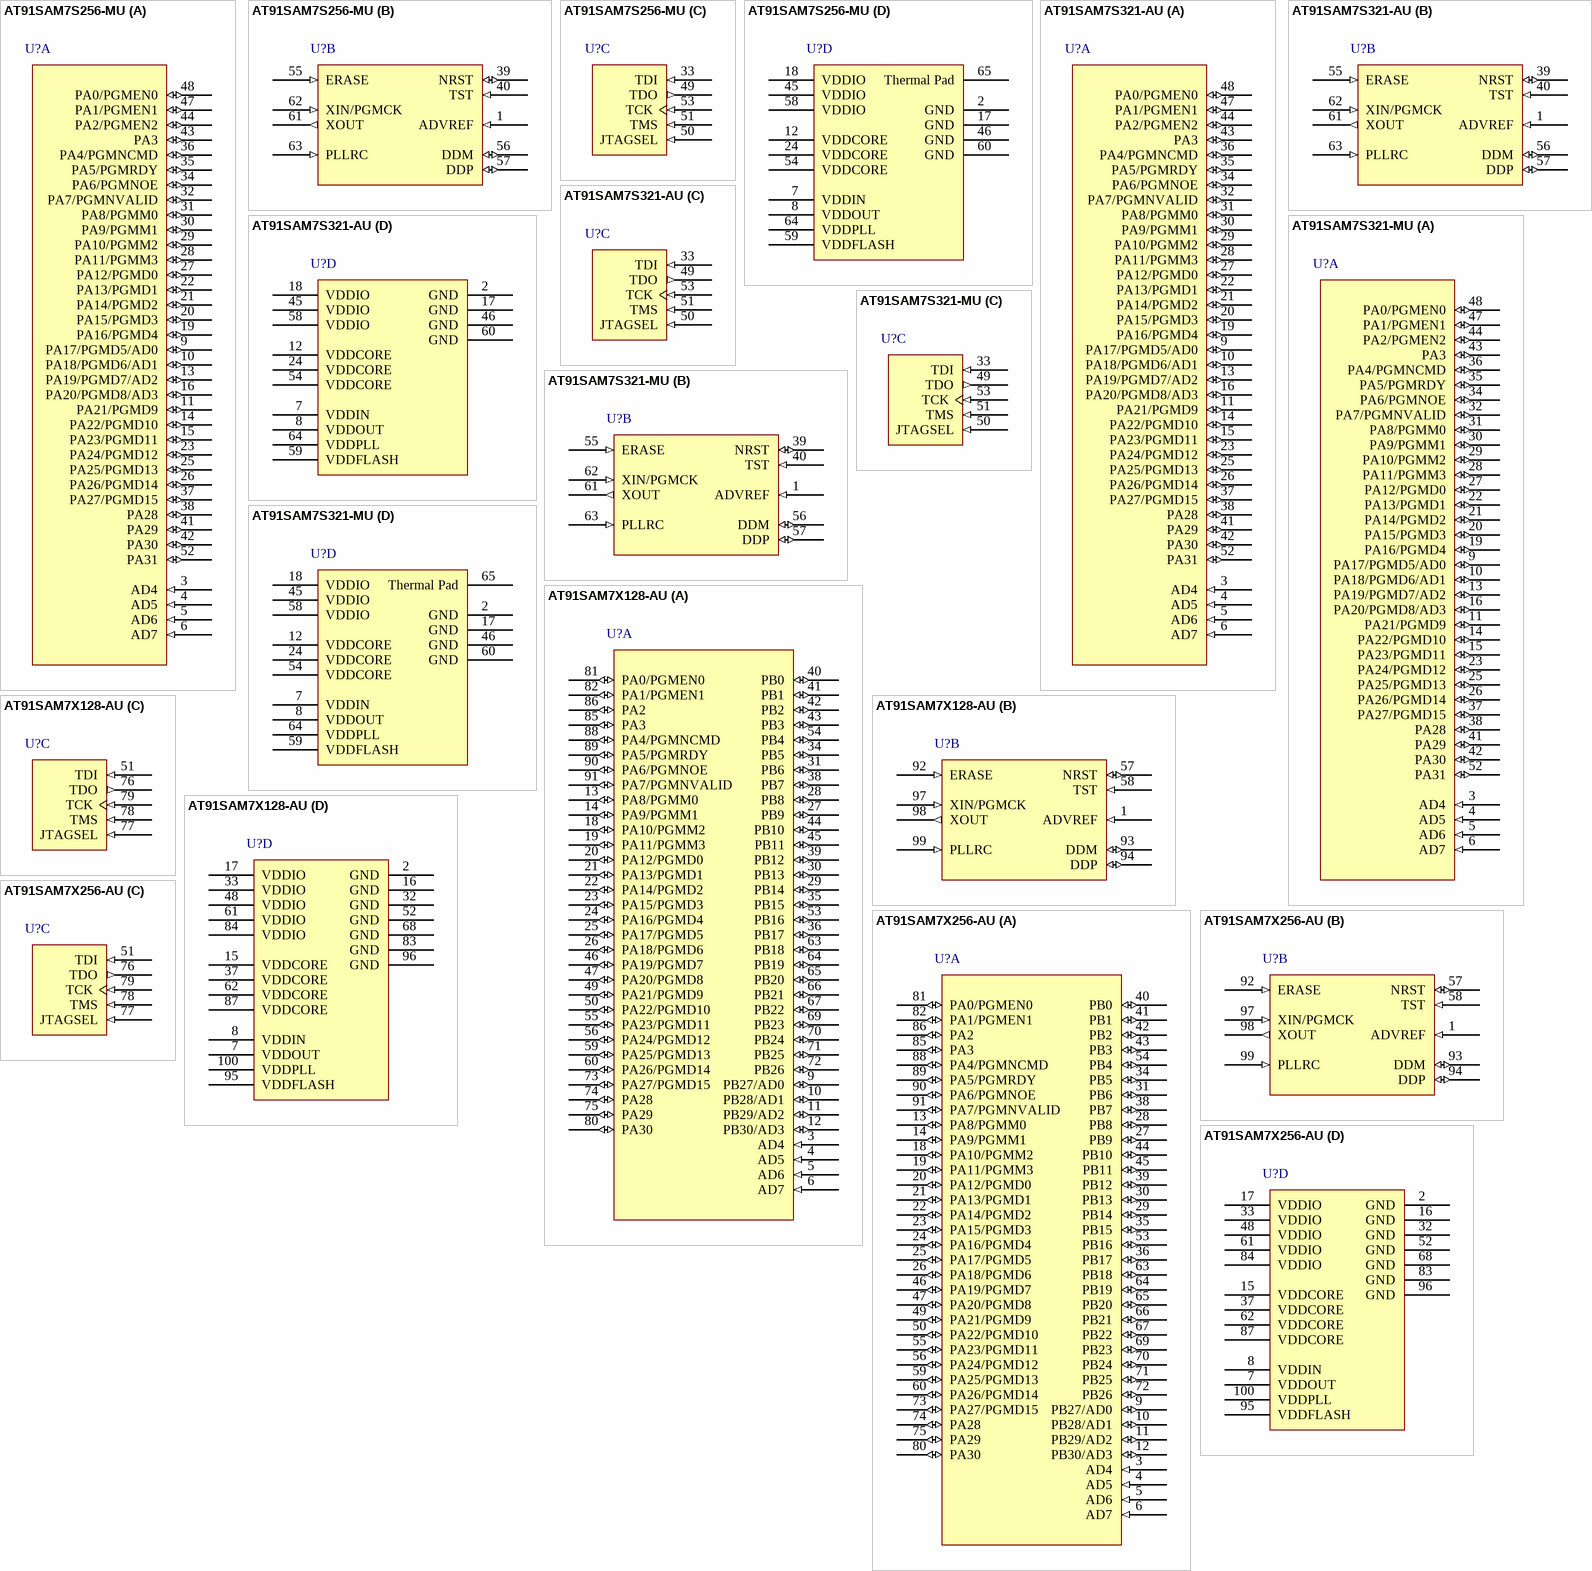
[diagram p2: symbols AT91SAM7S256-MU to AT91SAM7X256-AU]

## AT91SAM7S256-MU
designator U?
Smart ARM Microcontroller, ARM7TDMI 32-Bit RISC CPU, 256KB Flash and 64KB SRAM, 64-Pin QFN, Industrial, Pb-Free; Published: 16-Oct-2006; DatasheetVersion: 22-Mar-2006; PackageVersion: Apr-2006; PackageReference: QFN64; Publisher: Altium Limited; PackageDescription: 64-Pin Quad Flat No-Lead 0.5 mm Pitch; Code_JEDEC: MO-220; ComponentLink1Description: Manufacturer Link; ComponentLink1URL: http://www.atmel.com; ComponentLink2Description: Datasheet; ComponentLink2URL: http://www.atmel.com/dyn/resources/prod_documents/6175s.pdf
footprint QFN64_N (QFN, 64-Leads, Body 9x9mm, Pitch 0.5mm, IPC Medium Density)
footprint QFN64_L (QFN, 64-Leads, Body 9x9mm, Pitch 0.5mm, IPC High Density)
footprint QFN64_M (QFN, 64-Leads, Body 9x9mm, Pitch 0.5mm, IPC Low Density)
part A pins: 3 AD4 (in), 4 AD5 (in), 5 AD6 (in), 6 AD7 (in), 9 PA17/PGMD5/AD0 (io), 10 PA18/PGMD6/AD1 (io), 11 PA21/PGMD9 (io), 13 PA19/PGMD7/AD2 (io), 14 PA22/PGMD10 (io), 15 PA23/PGMD11 (io), 16 PA20/PGMD8/AD3 (io), 19 PA16/PGMD4 (io), 20 PA15/PGMD3 (io), 21 PA14/PGMD2 (io), 22 PA13/PGMD1 (io), 23 PA24/PGMD12 (io), 25 PA25/PGMD13 (io), 26 PA26/PGMD14 (io), 27 PA12/PGMD0 (io), 28 PA11/PGMM3 (io), 29 PA10/PGMM2 (io), 30 PA9/PGMM1 (io), 31 PA8/PGMM0 (io), 32 PA7/PGMNVALID (io), 34 PA6/PGMNOE (io), 35 PA5/PGMRDY (io), 36 PA4/PGMNCMD (io), 37 PA27/PGMD15 (io), 38 PA28 (io), 41 PA29 (io), 42 PA30 (io), 43 PA3 (io), 44 PA2/PGMEN2 (io), 47 PA1/PGMEN1 (io), 48 PA0/PGMEN0 (io), 52 PA31 (io)
part B pins: 1 ADVREF (in), 39 NRST (io), 40 TST (in), 55 ERASE (in), 56 DDM (io), 57 DDP (io), 61 XOUT (out), 62 XIN/PGMCK (in), 63 PLLRC (in)
part C pins: 33 TDI (in), 49 TDO (out), 50 JTAGSEL (in), 51 TMS (in), 53 TCK (in)
part D pins: 2 GND (power), 7 VDDIN (power), 8 VDDOUT (power), 12 VDDCORE (power), 17 GND (power), 18 VDDIO (power), 24 VDDCORE (power), 45 VDDIO (power), 46 GND (power), 54 VDDCORE (power), 58 VDDIO (power), 59 VDDFLASH (power), 60 GND (power), 64 VDDPLL (power), 65 Thermal Pad (power)

## AT91SAM7S321-AU
designator U?
Smart ARM Microcontroller, ARM7TDMI 32-Bit RISC CPU, 32KB Flash and 8KB SRAM, 64-Pin LQFP, Industrial, Pb-Free; Published: 16-Oct-2006; DatasheetVersion: 22-Mar-2006; PackageVersion: Apr-2006; PackageReference: LQFP64; Publisher: Altium Limited; PackageDescription: 64-Pin Thin Quad Flat Pack 0.5 mm Pitch; Code_JEDEC: MS-026-BCD; ComponentLink1Description: Manufacturer Link; ComponentLink1URL: http://www.atmel.com; ComponentLink2Description: Datasheet; ComponentLink2URL: http://www.atmel.com/dyn/resources/prod_documents/6175s.pdf
footprint LQFP64_N (Thin QFP, 64-Leads, Body 10x10mm, Pitch 0.5mm, IPC Medium Density)
footprint LQFP64_L (Thin QFP, 64-Leads, Body 10x10mm, Pitch 0.5mm, IPC High Density)
footprint LQFP64_M (Thin QFP, 64-Leads, Body 10x10mm, Pitch 0.5mm, IPC Low Density)
part A pins: 3 AD4 (in), 4 AD5 (in), 5 AD6 (in), 6 AD7 (in), 9 PA17/PGMD5/AD0 (io), 10 PA18/PGMD6/AD1 (io), 11 PA21/PGMD9 (io), 13 PA19/PGMD7/AD2 (io), 14 PA22/PGMD10 (io), 15 PA23/PGMD11 (io), 16 PA20/PGMD8/AD3 (io), 19 PA16/PGMD4 (io), 20 PA15/PGMD3 (io), 21 PA14/PGMD2 (io), 22 PA13/PGMD1 (io), 23 PA24/PGMD12 (io), 25 PA25/PGMD13 (io), 26 PA26/PGMD14 (io), 27 PA12/PGMD0 (io), 28 PA11/PGMM3 (io), 29 PA10/PGMM2 (io), 30 PA9/PGMM1 (io), 31 PA8/PGMM0 (io), 32 PA7/PGMNVALID (io), 34 PA6/PGMNOE (io), 35 PA5/PGMRDY (io), 36 PA4/PGMNCMD (io), 37 PA27/PGMD15 (io), 38 PA28 (io), 41 PA29 (io), 42 PA30 (io), 43 PA3 (io), 44 PA2/PGMEN2 (io), 47 PA1/PGMEN1 (io), 48 PA0/PGMEN0 (io), 52 PA31 (io)
part B pins: 1 ADVREF (in), 39 NRST (io), 40 TST (in), 55 ERASE (in), 56 DDM (io), 57 DDP (io), 61 XOUT (out), 62 XIN/PGMCK (in), 63 PLLRC (in)
part C pins: 33 TDI (in), 49 TDO (out), 50 JTAGSEL (in), 51 TMS (in), 53 TCK (in)
part D pins: 2 GND (power), 7 VDDIN (power), 8 VDDOUT (power), 12 VDDCORE (power), 17 GND (power), 18 VDDIO (power), 24 VDDCORE (power), 45 VDDIO (power), 46 GND (power), 54 VDDCORE (power), 58 VDDIO (power), 59 VDDFLASH (power), 60 GND (power), 64 VDDPLL (power)

## AT91SAM7S321-MU
designator U?
Smart ARM Microcontroller, ARM7TDMI 32-Bit RISC CPU, 32KB Flash and 8KB SRAM, 64-Pin QFN, Industrial, Pb-Free; Published: 16-Oct-2006; DatasheetVersion: 22-Mar-2006; PackageVersion: Apr-2006; PackageReference: QFN64; Publisher: Altium Limited; PackageDescription: 64-Pin Quad Flat No-Lead 0.5 mm Pitch; Code_JEDEC: MO-220; ComponentLink1Description: Manufacturer Link; ComponentLink1URL: http://www.atmel.com; ComponentLink2Description: Datasheet; ComponentLink2URL: http://www.atmel.com/dyn/resources/prod_documents/6175s.pdf
footprint QFN64_N (QFN, 64-Leads, Body 9x9mm, Pitch 0.5mm, IPC Medium Density)
footprint QFN64_L (QFN, 64-Leads, Body 9x9mm, Pitch 0.5mm, IPC High Density)
footprint QFN64_M (QFN, 64-Leads, Body 9x9mm, Pitch 0.5mm, IPC Low Density)
part A pins: 3 AD4 (in), 4 AD5 (in), 5 AD6 (in), 6 AD7 (in), 9 PA17/PGMD5/AD0 (io), 10 PA18/PGMD6/AD1 (io), 11 PA21/PGMD9 (io), 13 PA19/PGMD7/AD2 (io), 14 PA22/PGMD10 (io), 15 PA23/PGMD11 (io), 16 PA20/PGMD8/AD3 (io), 19 PA16/PGMD4 (io), 20 PA15/PGMD3 (io), 21 PA14/PGMD2 (io), 22 PA13/PGMD1 (io), 23 PA24/PGMD12 (io), 25 PA25/PGMD13 (io), 26 PA26/PGMD14 (io), 27 PA12/PGMD0 (io), 28 PA11/PGMM3 (io), 29 PA10/PGMM2 (io), 30 PA9/PGMM1 (io), 31 PA8/PGMM0 (io), 32 PA7/PGMNVALID (io), 34 PA6/PGMNOE (io), 35 PA5/PGMRDY (io), 36 PA4/PGMNCMD (io), 37 PA27/PGMD15 (io), 38 PA28 (io), 41 PA29 (io), 42 PA30 (io), 43 PA3 (io), 44 PA2/PGMEN2 (io), 47 PA1/PGMEN1 (io), 48 PA0/PGMEN0 (io), 52 PA31 (io)
part B pins: 1 ADVREF (in), 39 NRST (io), 40 TST (in), 55 ERASE (in), 56 DDM (io), 57 DDP (io), 61 XOUT (out), 62 XIN/PGMCK (in), 63 PLLRC (in)
part C pins: 33 TDI (in), 49 TDO (out), 50 JTAGSEL (in), 51 TMS (in), 53 TCK (in)
part D pins: 2 GND (power), 7 VDDIN (power), 8 VDDOUT (power), 12 VDDCORE (power), 17 GND (power), 18 VDDIO (power), 24 VDDCORE (power), 45 VDDIO (power), 46 GND (power), 54 VDDCORE (power), 58 VDDIO (power), 59 VDDFLASH (power), 60 GND (power), 64 VDDPLL (power), 65 Thermal Pad (power)

## AT91SAM7X128-AU
designator U?
Smart ARM Microcontroller, ARM7TDMI 32-Bit RISC CPU, 128KB Flash and 32KB SRAM, 100-Pin LQFP, Industrial, Pb-Free; Published: 16-Oct-2006; DatasheetVersion: 17-Oct-2005; PackageVersion: Apr-2006; PackageReference: LQFP100; Publisher: Altium Limited; PackageDescription: 100-Pin Thin Quad Flat Pack 0.5 mm Pitch; Code_JEDEC: MS-026-BED; ComponentLink1Description: Manufacturer Link; ComponentLink1URL: http://www.atmel.com; ComponentLink2Description: Datasheet; ComponentLink2URL: http://www.atmel.com/dyn/resources/prod_documents/6120s.pdf
footprint LQFP100_N (Thin QFP, 100-Leads, Body 14x14mm, Pitch 0.5mm, IPC Medium Density)
footprint LQFP100_L (Thin QFP, 100-Leads, Body 14x14mm, Pitch 0.5mm, IPC High Density)
footprint LQFP100_M (Thin QFP, 100-Leads, Body 14x14mm, Pitch 0.5mm, IPC Low Density)
part A pins: 3 AD4 (in), 4 AD5 (in), 5 AD6 (in), 6 AD7 (in), 9 PB27/AD0 (io), 10 PB28/AD1 (io), 11 PB29/AD2 (io), 12 PB30/AD3 (io), 13 PA8/PGMM0 (io), 14 PA9/PGMM1 (io), 18 PA10/PGMM2 (io), 19 PA11/PGMM3 (io), 20 PA12/PGMD0 (io), 21 PA13/PGMD1 (io), 22 PA14/PGMD2 (io), 23 PA15/PGMD3 (io), 24 PA16/PGMD4 (io), 25 PA17/PGMD5 (io), 26 PA18/PGMD6 (io), 27 PB9 (io), 28 PB8 (io), 29 PB14 (io), 30 PB13 (io), 31 PB6 (io), 34 PB5 (io), 35 PB15 (io), 36 PB17 (io), 38 PB7 (io), 39 PB12 (io), 40 PB0 (io), 41 PB1 (io), 42 PB2 (io), 43 PB3 (io), 44 PB10 (io), 45 PB11 (io), 46 PA19/PGMD7 (io), 47 PA20/PGMD8 (io), 49 PA21/PGMD9 (io), 50 PA22/PGMD10 (io), 53 PB16 (io), 54 PB4 (io), 55 PA23/PGMD11 (io), 56 PA24/PGMD12 (io), 59 PA25/PGMD13 (io), 60 PA26/PGMD14 (io), 63 PB18 (io), 64 PB19 (io), 65 PB20 (io), 66 PB21 (io), 67 PB22 (io), 69 PB23 (io), 70 PB24 (io), 71 PB25 (io), 72 PB26 (io), 73 PA27/PGMD15 (io), 74 PA28 (io), 75 PA29 (io), 80 PA30 (io), 81 PA0/PGMEN0 (io), 82 PA1/PGMEN1 (io), 85 PA3 (io), 86 PA2 (io), 88 PA4/PGMNCMD (io), 89 PA5/PGMRDY (io), 90 PA6/PGMNOE (io), 91 PA7/PGMNVALID (io)
part B pins: 1 ADVREF (in), 57 NRST (io), 58 TST (in), 92 ERASE (in), 93 DDM (io), 94 DDP (io), 97 XIN/PGMCK (in), 98 XOUT (out), 99 PLLRC (in)
part C pins: 51 TDI (in), 76 TDO (out), 77 JTAGSEL (in), 78 TMS (in), 79 TCK (in)
part D pins: 2 GND (power), 7 VDDOUT (power), 8 VDDIN (power), 15 VDDCORE (power), 16 GND (power), 17 VDDIO (power), 32 GND (power), 33 VDDIO (power), 37 VDDCORE (power), 48 VDDIO (power), 52 GND (power), 61 VDDIO (power), 62 VDDCORE (power), 68 GND (power), 83 GND (power), 84 VDDIO (power), 87 VDDCORE (power), 95 VDDFLASH (power), 96 GND (power), 100 VDDPLL (power)

## AT91SAM7X256-AU
designator U?
Smart ARM Microcontroller, ARM7TDMI 32-Bit RISC CPU, 256KB Flash and 64KB SRAM, 100-Pin LQFP, Industrial, Pb-Free; Published: 16-Oct-2006; DatasheetVersion: 17-Oct-2005; PackageVersion: Apr-2006; PackageReference: LQFP100; Publisher: Altium Limited; PackageDescription: 100-Pin Thin Quad Flat Pack 0.5 mm Pitch; Code_JEDEC: MS-026-BED; ComponentLink1Description: Manufacturer Link; ComponentLink1URL: http://www.atmel.com; ComponentLink2Description: Datasheet; ComponentLink2URL: http://www.atmel.com/dyn/resources/prod_documents/6120s.pdf
footprint LQFP100_N (Thin QFP, 100-Leads, Body 14x14mm, Pitch 0.5mm, IPC Medium Density)
footprint LQFP100_L (Thin QFP, 100-Leads, Body 14x14mm, Pitch 0.5mm, IPC High Density)
footprint LQFP100_M (Thin QFP, 100-Leads, Body 14x14mm, Pitch 0.5mm, IPC Low Density)
part A pins: 3 AD4 (in), 4 AD5 (in), 5 AD6 (in), 6 AD7 (in), 9 PB27/AD0 (io), 10 PB28/AD1 (io), 11 PB29/AD2 (io), 12 PB30/AD3 (io), 13 PA8/PGMM0 (io), 14 PA9/PGMM1 (io), 18 PA10/PGMM2 (io), 19 PA11/PGMM3 (io), 20 PA12/PGMD0 (io), 21 PA13/PGMD1 (io), 22 PA14/PGMD2 (io), 23 PA15/PGMD3 (io), 24 PA16/PGMD4 (io), 25 PA17/PGMD5 (io), 26 PA18/PGMD6 (io), 27 PB9 (io), 28 PB8 (io), 29 PB14 (io), 30 PB13 (io), 31 PB6 (io), 34 PB5 (io), 35 PB15 (io), 36 PB17 (io), 38 PB7 (io), 39 PB12 (io), 40 PB0 (io), 41 PB1 (io), 42 PB2 (io), 43 PB3 (io), 44 PB10 (io), 45 PB11 (io), 46 PA19/PGMD7 (io), 47 PA20/PGMD8 (io), 49 PA21/PGMD9 (io), 50 PA22/PGMD10 (io), 53 PB16 (io), 54 PB4 (io), 55 PA23/PGMD11 (io), 56 PA24/PGMD12 (io), 59 PA25/PGMD13 (io), 60 PA26/PGMD14 (io), 63 PB18 (io), 64 PB19 (io), 65 PB20 (io), 66 PB21 (io), 67 PB22 (io), 69 PB23 (io), 70 PB24 (io), 71 PB25 (io), 72 PB26 (io), 73 PA27/PGMD15 (io), 74 PA28 (io), 75 PA29 (io), 80 PA30 (io), 81 PA0/PGMEN0 (io), 82 PA1/PGMEN1 (io), 85 PA3 (io), 86 PA2 (io), 88 PA4/PGMNCMD (io), 89 PA5/PGMRDY (io), 90 PA6/PGMNOE (io), 91 PA7/PGMNVALID (io)
part B pins: 1 ADVREF (in), 57 NRST (io), 58 TST (in), 92 ERASE (in), 93 DDM (io), 94 DDP (io), 97 XIN/PGMCK (in), 98 XOUT (out), 99 PLLRC (in)
part C pins: 51 TDI (in), 76 TDO (out), 77 JTAGSEL (in), 78 TMS (in), 79 TCK (in)
part D pins: 2 GND (power), 7 VDDOUT (power), 8 VDDIN (power), 15 VDDCORE (power), 16 GND (power), 17 VDDIO (power), 32 GND (power), 33 VDDIO (power), 37 VDDCORE (power), 48 VDDIO (power), 52 GND (power), 61 VDDIO (power), 62 VDDCORE (power), 68 GND (power), 83 GND (power), 84 VDDIO (power), 87 VDDCORE (power), 95 VDDFLASH (power), 96 GND (power), 100 VDDPLL (power)

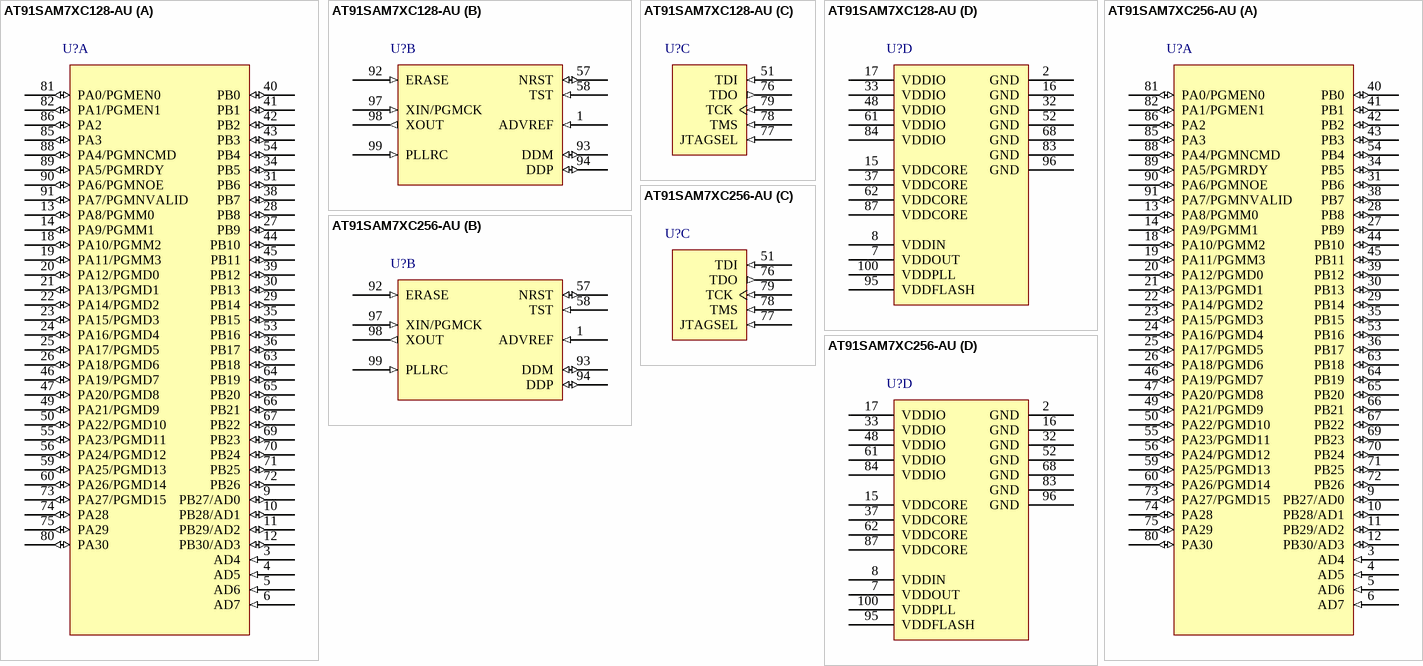
[diagram p3: symbols AT91SAM7XC128-AU to AT91SAM7XC256-AU]

## AT91SAM7XC128-AU
designator U?
Smart ARM Microcontroller, ARM7TDMI 32-Bit RISC CPU, 128KB Flash and 32KB SRAM, 100-Pin LQFP, Industrial, Pb-Free; Published: 16-Oct-2006; DatasheetVersion: 20-Oct-2005; PackageVersion: Apr-2006; PackageReference: LQFP100; Publisher: Altium Limited; PackageDescription: 100-Pin Thin Quad Flat Pack 0.5 mm Pitch; Code_JEDEC: MS-026-BED; ComponentLink1Description: Manufacturer Link; ComponentLink1URL: http://www.atmel.com; ComponentLink2Description: Datasheet; ComponentLink2URL: http://www.atmel.com/dyn/resources/prod_documents/6209s.pdf
footprint LQFP100_N (Thin QFP, 100-Leads, Body 14x14mm, Pitch 0.5mm, IPC Medium Density)
footprint LQFP100_L (Thin QFP, 100-Leads, Body 14x14mm, Pitch 0.5mm, IPC High Density)
footprint LQFP100_M (Thin QFP, 100-Leads, Body 14x14mm, Pitch 0.5mm, IPC Low Density)
part A pins: 3 AD4 (in), 4 AD5 (in), 5 AD6 (in), 6 AD7 (in), 9 PB27/AD0 (io), 10 PB28/AD1 (io), 11 PB29/AD2 (io), 12 PB30/AD3 (io), 13 PA8/PGMM0 (io), 14 PA9/PGMM1 (io), 18 PA10/PGMM2 (io), 19 PA11/PGMM3 (io), 20 PA12/PGMD0 (io), 21 PA13/PGMD1 (io), 22 PA14/PGMD2 (io), 23 PA15/PGMD3 (io), 24 PA16/PGMD4 (io), 25 PA17/PGMD5 (io), 26 PA18/PGMD6 (io), 27 PB9 (io), 28 PB8 (io), 29 PB14 (io), 30 PB13 (io), 31 PB6 (io), 34 PB5 (io), 35 PB15 (io), 36 PB17 (io), 38 PB7 (io), 39 PB12 (io), 40 PB0 (io), 41 PB1 (io), 42 PB2 (io), 43 PB3 (io), 44 PB10 (io), 45 PB11 (io), 46 PA19/PGMD7 (io), 47 PA20/PGMD8 (io), 49 PA21/PGMD9 (io), 50 PA22/PGMD10 (io), 53 PB16 (io), 54 PB4 (io), 55 PA23/PGMD11 (io), 56 PA24/PGMD12 (io), 59 PA25/PGMD13 (io), 60 PA26/PGMD14 (io), 63 PB18 (io), 64 PB19 (io), 65 PB20 (io), 66 PB21 (io), 67 PB22 (io), 69 PB23 (io), 70 PB24 (io), 71 PB25 (io), 72 PB26 (io), 73 PA27/PGMD15 (io), 74 PA28 (io), 75 PA29 (io), 80 PA30 (io), 81 PA0/PGMEN0 (io), 82 PA1/PGMEN1 (io), 85 PA3 (io), 86 PA2 (io), 88 PA4/PGMNCMD (io), 89 PA5/PGMRDY (io), 90 PA6/PGMNOE (io), 91 PA7/PGMNVALID (io)
part B pins: 1 ADVREF (in), 57 NRST (io), 58 TST (in), 92 ERASE (in), 93 DDM (io), 94 DDP (io), 97 XIN/PGMCK (in), 98 XOUT (out), 99 PLLRC (in)
part C pins: 51 TDI (in), 76 TDO (out), 77 JTAGSEL (in), 78 TMS (in), 79 TCK (in)
part D pins: 2 GND (power), 7 VDDOUT (power), 8 VDDIN (power), 15 VDDCORE (power), 16 GND (power), 17 VDDIO (power), 32 GND (power), 33 VDDIO (power), 37 VDDCORE (power), 48 VDDIO (power), 52 GND (power), 61 VDDIO (power), 62 VDDCORE (power), 68 GND (power), 83 GND (power), 84 VDDIO (power), 87 VDDCORE (power), 95 VDDFLASH (power), 96 GND (power), 100 VDDPLL (power)

## AT91SAM7XC256-AU
designator U?
Smart ARM Microcontroller, ARM7TDMI 32-Bit RISC CPU, 256KB Flash and 64KB SRAM, 100-Pin LQFP, Industrial, Pb-Free; Published: 16-Oct-2006; DatasheetVersion: 20-Oct-2005; PackageVersion: Apr-2006; PackageReference: LQFP100; Publisher: Altium Limited; PackageDescription: 100-Pin Thin Quad Flat Pack 0.5 mm Pitch; Code_JEDEC: MS-026-BED; ComponentLink1Description: Manufacturer Link; ComponentLink1URL: http://www.atmel.com; ComponentLink2Description: Datasheet; ComponentLink2URL: http://www.atmel.com/dyn/resources/prod_documents/6209s.pdf
footprint LQFP100_N (Thin QFP, 100-Leads, Body 14x14mm, Pitch 0.5mm, IPC Medium Density)
footprint LQFP100_L (Thin QFP, 100-Leads, Body 14x14mm, Pitch 0.5mm, IPC High Density)
footprint LQFP100_M (Thin QFP, 100-Leads, Body 14x14mm, Pitch 0.5mm, IPC Low Density)
part A pins: 3 AD4 (in), 4 AD5 (in), 5 AD6 (in), 6 AD7 (in), 9 PB27/AD0 (io), 10 PB28/AD1 (io), 11 PB29/AD2 (io), 12 PB30/AD3 (io), 13 PA8/PGMM0 (io), 14 PA9/PGMM1 (io), 18 PA10/PGMM2 (io), 19 PA11/PGMM3 (io), 20 PA12/PGMD0 (io), 21 PA13/PGMD1 (io), 22 PA14/PGMD2 (io), 23 PA15/PGMD3 (io), 24 PA16/PGMD4 (io), 25 PA17/PGMD5 (io), 26 PA18/PGMD6 (io), 27 PB9 (io), 28 PB8 (io), 29 PB14 (io), 30 PB13 (io), 31 PB6 (io), 34 PB5 (io), 35 PB15 (io), 36 PB17 (io), 38 PB7 (io), 39 PB12 (io), 40 PB0 (io), 41 PB1 (io), 42 PB2 (io), 43 PB3 (io), 44 PB10 (io), 45 PB11 (io), 46 PA19/PGMD7 (io), 47 PA20/PGMD8 (io), 49 PA21/PGMD9 (io), 50 PA22/PGMD10 (io), 53 PB16 (io), 54 PB4 (io), 55 PA23/PGMD11 (io), 56 PA24/PGMD12 (io), 59 PA25/PGMD13 (io), 60 PA26/PGMD14 (io), 63 PB18 (io), 64 PB19 (io), 65 PB20 (io), 66 PB21 (io), 67 PB22 (io), 69 PB23 (io), 70 PB24 (io), 71 PB25 (io), 72 PB26 (io), 73 PA27/PGMD15 (io), 74 PA28 (io), 75 PA29 (io), 80 PA30 (io), 81 PA0/PGMEN0 (io), 82 PA1/PGMEN1 (io), 85 PA3 (io), 86 PA2 (io), 88 PA4/PGMNCMD (io), 89 PA5/PGMRDY (io), 90 PA6/PGMNOE (io), 91 PA7/PGMNVALID (io)
part B pins: 1 ADVREF (in), 57 NRST (io), 58 TST (in), 92 ERASE (in), 93 DDM (io), 94 DDP (io), 97 XIN/PGMCK (in), 98 XOUT (out), 99 PLLRC (in)
part C pins: 51 TDI (in), 76 TDO (out), 77 JTAGSEL (in), 78 TMS (in), 79 TCK (in)
part D pins: 2 GND (power), 7 VDDOUT (power), 8 VDDIN (power), 15 VDDCORE (power), 16 GND (power), 17 VDDIO (power), 32 GND (power), 33 VDDIO (power), 37 VDDCORE (power), 48 VDDIO (power), 52 GND (power), 61 VDDIO (power), 62 VDDCORE (power), 68 GND (power), 83 GND (power), 84 VDDIO (power), 87 VDDCORE (power), 95 VDDFLASH (power), 96 GND (power), 100 VDDPLL (power)